# EAGLE library part MCP6L02 (library lcard_repeater)
Universal High Brightness LED Driver Source: www.supertex.com .. led_driver_ics_SG.pdf
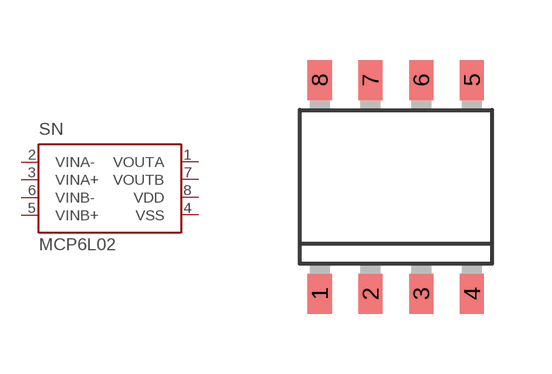
[diagram p2: symbol with the pads of SOIC-08LG; footprint SOIC-08LG]

Designator prefix SN

## MCP6L02SN (MPN: MXHV9910B; OC_FARNELL: unknown; OC_NEWARK: 15R9731)  [SOIC-08LG]
1  VOUTA  pas
2  VINA-  in
3  VINA+  in
4  VSS  pwr
5  VINB+  in
6  VINB-  out
7  VOUTB  in
8  VDD  pwr

## Footprint SOIC-08LG (pad centres in mm)
8-Lead SOIC (Narrow Body) Package Outline (LG) 4.9x3.9mm body, 1.75mm height (max), 1.27mm pitch Source: www.supertex.com .. led_driver_ics_SG.pdf
smd 0.6 x 1: 1 -1.905,-2.675; 2 -0.635,-2.675; 3 0.635,-2.675; 4 1.905,-2.675; 5 1.905,2.675; 6 0.635,2.675; 7 -0.635,2.675; 8 -1.905,2.675